# Altium schematic symbol library Loom Connectors.SchLib: 7 symbols
Pins are listed as number, name and electrical type; pins without a type are passive.

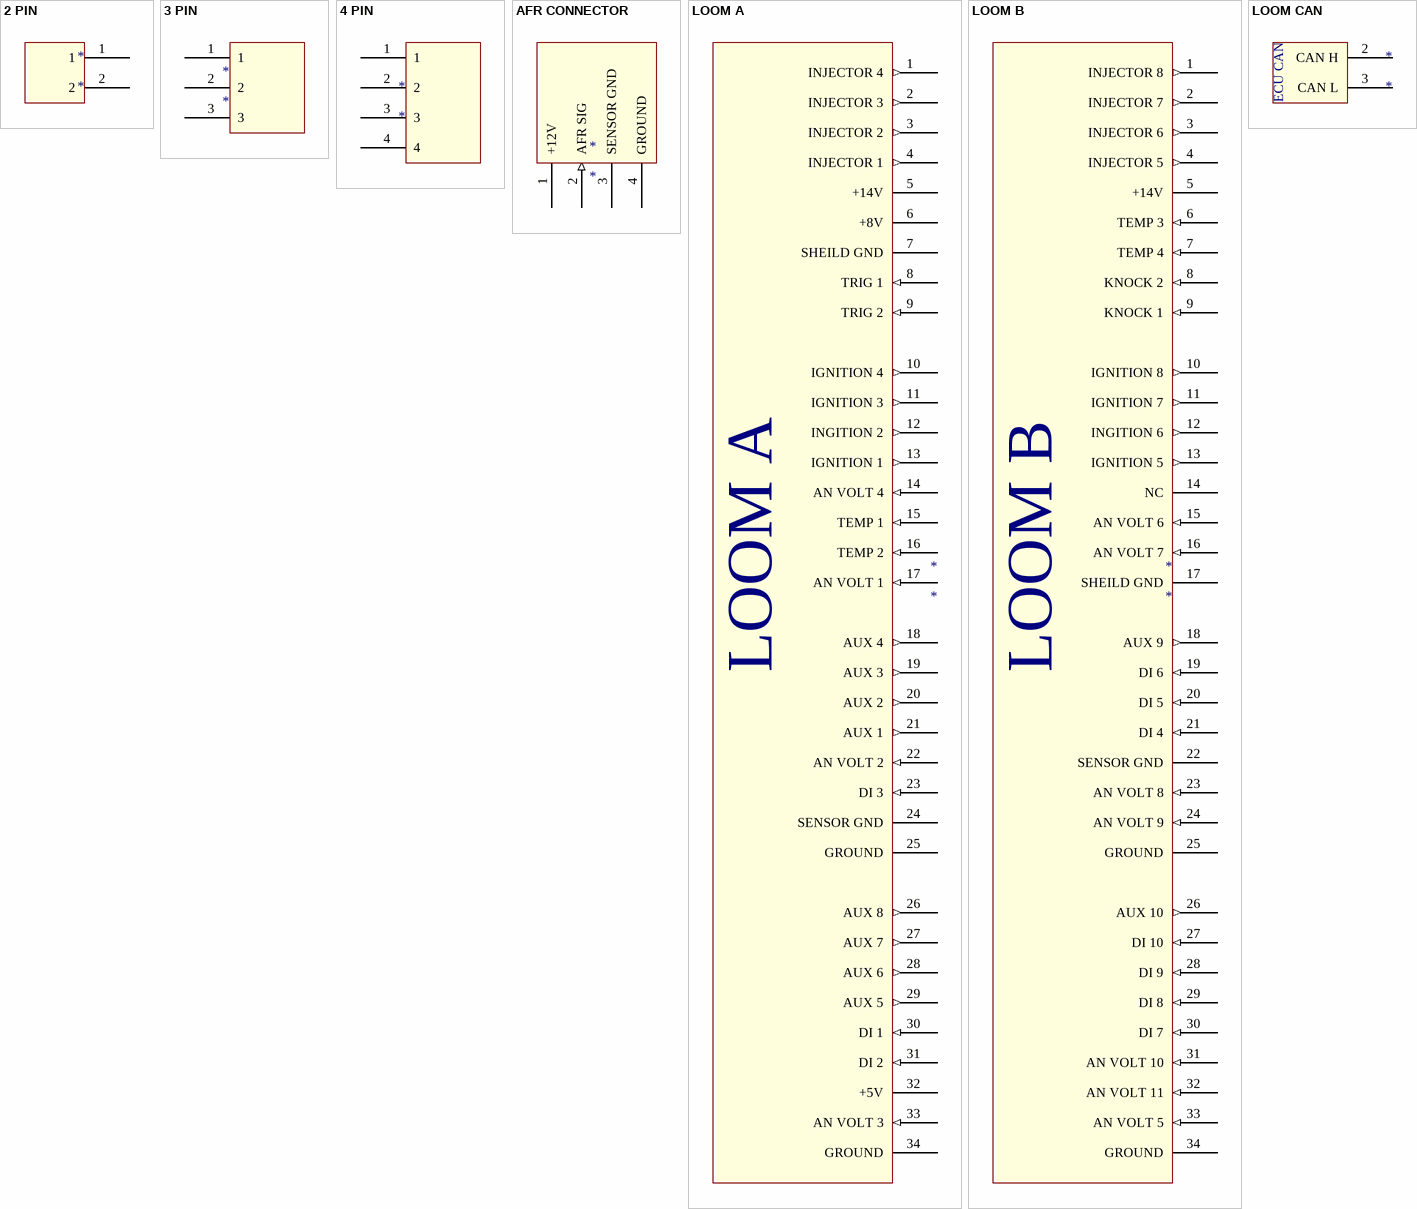
[diagram p0: symbols 2 PIN to LOOM CAN]

## 2 PIN
designator *
pins: 1, 2

## 3 PIN
designator *
pins: 1, 2, 3

## 4 PIN
designator *
pins: 1, 2, 3, 4

## AFR CONNECTOR
designator *
pins: 1 +12V (power), 2 AFR SIG (in), 3 SENSOR GND (power), 4 GROUND (power)

## LOOM A
designator *
34 pin ECU connector
pins: 1 INJECTOR 4 (out) "INJECTOR", 2 INJECTOR 3 (out) "INJECTOR", 3 INJECTOR 2 (out) "INJECTOR", 4 INJECTOR 1 (out) "INJECTOR", 5 +14V (power), 6 +8V (power), 7 SHEILD GND (power) "SHIELD GND", 8 TRIG 1 (in) "CRANK SENSOR", 9 TRIG 2 (in) "CAM SENSOR", 10 IGNITION 4 (out) "IGNITION", 11 IGNITION 3 (out) "IGNITION", 12 INGITION 2 (out) "IGNITION", 13 IGNITION 1 (out) "IGNITION", 14 AN VOLT 4 (in) "TPS (MAIN)", 15 TEMP 1 (in) "ECT", 16 TEMP 2 (in) "IAT", 17 AN VOLT 1 (in) "MAP", 18 AUX 4 (out) "UNUSED", 19 AUX 3 (out) "FUEL PUMP", 20 AUX 2 (out) "WATER PUMP", 21 AUX 1 (out) "FAN", 22 AN VOLT 2 (in) "OIL PRESSURE", 23 DI 3 (in) "DL WHEEL SPEED", 24 SENSOR GND (power), 25 GROUND (power), 26 AUX 8 (out) "BRAKE LIGHT", 27 AUX 7 (out) "UNUSED", 28 AUX 6 (out) "UNUSED", 29 AUX 5 (out) "UNUSED", 30 DI 1 (in) "GR WHEEL SPEED", 31 DI 2 (in) "UNUSED", 32 +5V (power), 33 AN VOLT 3 (in) "WIDEBAND AFR", 34 GROUND (power)

## LOOM B
designator *
34 pin ECU connector
pins: 1 INJECTOR 8 (out) "UNUSED", 2 INJECTOR 7 (out) "UNUSED", 3 INJECTOR 6 (out) "UNUSED", 4 INJECTOR 5 (out) "UNUSED", 5 +14V (power), 6 TEMP 3 (in) "OIL TEMP", 7 TEMP 4 (in) "FUEL TEMP", 8 KNOCK 2 (in) "UNUSED", 9 KNOCK 1 (in) "UNUSED", 10 IGNITION 8 (out) "UNUSED", 11 IGNITION 7 (out) "UNUSED", 12 INGITION 6 (out) "UNUSED", 13 IGNITION 5 (out) "UNUSED", 14 NC, 15 AN VOLT 6 (in) "R BRAKE PRESSURE", 16 AN VOLT 7 (in) "F BRAKE PRESSURE", 17 SHEILD GND (power), 18 AUX 9 (out) "UNUSED", 19 DI 6 (in) "UNUSED", 20 DI 5 (in) "GL WHEEL SPEED", 21 DI 4 (in) "DR WHEEL SPEED", 22 SENSOR GND (power), 23 AN VOLT 8 (in) "EGT 1", 24 AN VOLT 9 (in) "EGT 2", 25 GROUND (power), 26 AUX 10 (out) "UNUSED", 27 DI 10 (in) "UNUSED", 28 DI 9 (in) "UNUSED", 29 DI 8 (in) "UNUSED", 30 DI 7 (in) "GR WHEEL SPEED", 31 AN VOLT 10 (in) "EGT 3", 32 AN VOLT 11 (in) "EGT 4", 33 AN VOLT 5 (in) "FUEL PRESSURE", 34 GROUND (power)

## LOOM CAN
designator *
pins: 2 CAN H, 3 CAN L
text: ECU CAN